# Altium footprint library USON-10.PcbLib: 1 footprints
Each footprint in its own frame and in the unit in brackets; x right, y up, seen from the top. Pads: shape width x height; smd on the part's side, far side on the other; paste and mask are expansions set on the pad; w line width, h text height; cw(c..) or ccw(c..) is an arc to the next point about the centre after c.
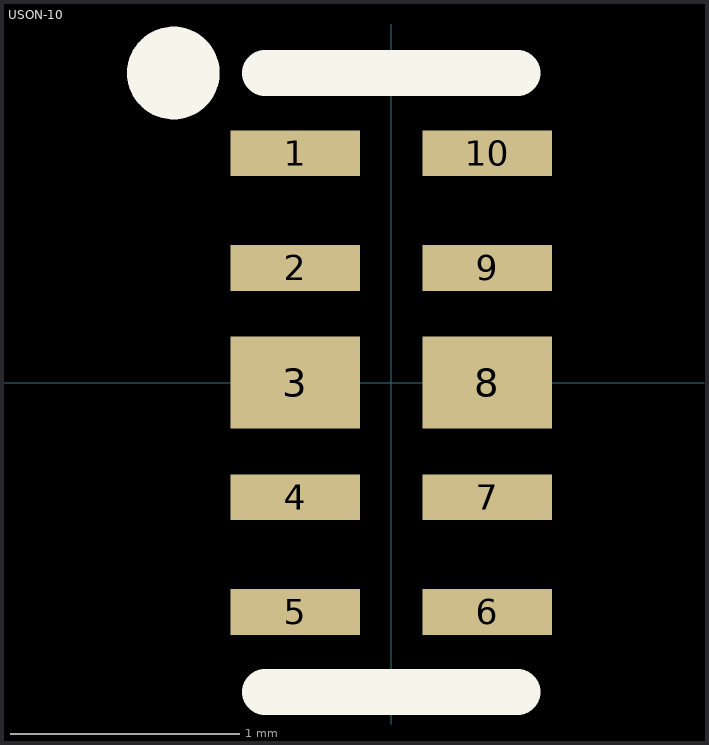
[diagram p0: the footprint, top view; thin cyan lines are the x and y axes]

## USON-10 [mm] "USON-10"
pads (10):
  rect 0.565x0.2 smd mask+0.05: 1(-0.418,1) 2(-0.418,0.5) 4(-0.418,-0.5) 5(-0.418,-1) 6(0.418,-1) 7(0.418,-0.5) 9(0.418,0.5) 10(0.418,1)
  rect 0.565x0.4 smd mask+0.05: 3(-0.418,0) 8(0.418,0)
Top Overlay:
  circle w0.254: c-0.95,1.35 r0.075
  lines w0.2: -0.55,-1.35 0.55,-1.35 ; -0.55,1.35 0.55,1.35
3D body: height 0.55, standoff 0, extent -0.55,-1.3 0.55,1.3